# Altium integrated library relay-package.IntLib: 1 symbol
Pins are listed as number, name and electrical type; pins without a type are passive.

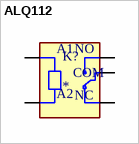
[diagram p0: symbol ALQ112]

## ALQ112
designator K?
RELAY GEN PURPOSE SPDT 10A 12V | Panasonic Electronic Components ALQ112; MF: Panasonic Electric Works; SnapEDA_Link: https://www.snapeda.com/parts/ALQ112/Panasonic/view-part/?ref=snap; Package: None; Value: *; MP: ALQ112; Check_prices: https://www.snapeda.com/parts/ALQ112/Panasonic/view-part/?ref=eda
footprint RELAY_ALQ112
pins: 1 A1, 2 A2, 3 COM, 4 NC, 5 NO